# Altium schematic symbol library ESP_32.SchLib: 4 symbols
Pins are listed as number, name and electrical type; pins without a type are passive.

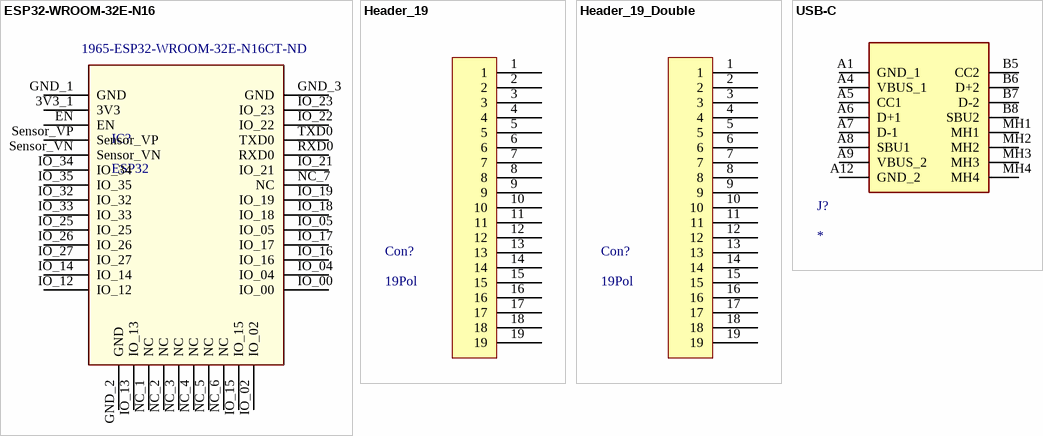
[diagram p0: symbols ESP32-WROOM-32E-N16 to USB-C]

## ESP32-WROOM-32E-N16
designator IC?, comment ESP32  Supplier Part Number 1: 1965-ESP32-WROOM-32E-N16CT-ND
Manufacturer: Espressif Systems; Manufacturer Part Number: ESP32-WROOM-32E-N16; Supplier 1: Digi-Key; RoHS: No; Category: Uncategorized; Stock 1: 11805; Pricing 1: 1=3,60000 (USD)
footprint ESP-WRC
pins: 3V3_1 3V3, EN, GND_1 GND, GND_2 GND, GND_3 GND, IO_00, IO_02, IO_04, IO_05, IO_12, IO_13, IO_14, IO_15, IO_16, IO_17, IO_18, IO_19, IO_21, IO_22, IO_23, IO_25, IO_26, IO_27, IO_32, IO_33, IO_34, IO_35, NC_1 NC, NC_2 NC, NC_3 NC, NC_4 NC, NC_5 NC, NC_6 NC, NC_7 NC, RXD0, Sensor_VN, Sensor_VP, TXD0

## Header_19
designator Con?, comment 19Pol  (no BOM)
footprint Header_19 (19 Polig)
pins: 1, 2, 3, 4, 5, 6, 7, 8, 9, 10, 11, 12, 13, 14, 15, 16, 17, 18, 19

## Header_19_Double
designator Con?, comment 19Pol  (no BOM)
footprint Header_19-Double (19 Polig)
pins: 1, 2, 3, 4, 5, 6, 7, 8, 9, 10, 11, 12, 13, 14, 15, 16, 17, 18, 19

## USB-C
designator J?
footprint USB-C (BTC-TC16-32)
pins: A1 GND_1, A4 VBUS_1, A5 CC1, A6 D+1, A7 D-1, A8 SBU1, A9 VBUS_2, A12 GND_2, B5 CC2, B6 D+2, B7 D-2, B8 SBU2, MH1, MH2, MH3, MH4